# Altium schematic symbol library VND5050.SchLib: 1 symbol
Pins are listed as number, name and electrical type; pins without a type are passive.

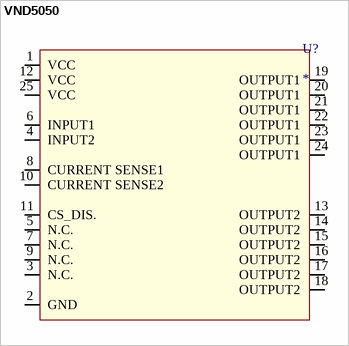
[diagram p0: symbol VND5050]

## VND5050
designator U?
pins: 1 VCC, 2 GND, 3 N.C., 4 INPUT2, 5 N.C., 6 INPUT1, 7 N.C., 8 CURRENT SENSE1, 9 N.C., 10 CURRENT SENSE2, 11 CS_DIS., 12 VCC, 13 OUTPUT2, 14 OUTPUT2, 15 OUTPUT2, 16 OUTPUT2, 17 OUTPUT2, 18 OUTPUT2, 19 OUTPUT1, 20 OUTPUT1, 21 OUTPUT1, 22 OUTPUT1, 23 OUTPUT1, 24 OUTPUT1, 25 VCC